# EAGLE library part SN74LVC3G04DCUR (library My Library-adm)
TRIPLE INVERTER GATE
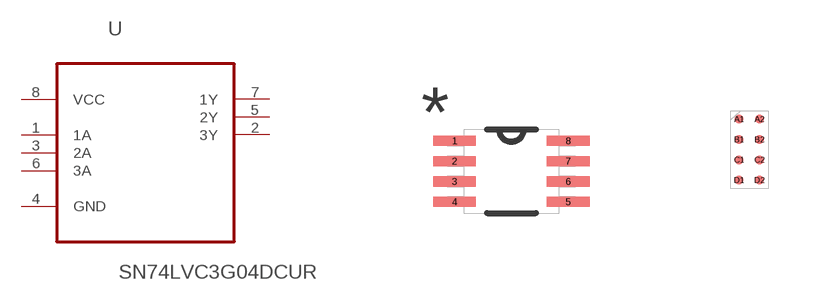
[diagram p35: symbol with the pads of SOP50P310X90-8N; footprints SOP50P310X90-8N, BGA8C50P2X4_190X90X50]

Designator prefix U

## SN74LVC3G04DCUR (MPN: SN74LVC3G04DCUR; OC_FARNELL: 1470889; OC_NEWARK: 76C4262; PACKAGE: VSSOP-8; SUPPLIER: Texas Instruments)  [SOP50P310X90-8N]
1  1A  in
2  3Y  out
3  2A  in
4  GND  pas
5  2Y  out
6  3A  in
7  1Y  out
8  VCC  pwr

## SN74LVC3G04DCURBGA  [BGA8C50P2X4_190X90X50]
A1  1A  in
A2  VCC  pwr
B1  3Y  out
B2  1Y  out
C1  2A  in
C2  3A  in
D1  GND  pas
D2  2Y  out

## Footprint SOP50P310X90-8N (pad centres in mm)
smd 1.067 x 0.254: 1 -1.422,0.762; 2 -1.422,0.254; 3 -1.422,-0.254; 4 -1.422,-0.762; 5 1.422,-0.762; 6 1.422,-0.254; 7 1.422,0.254; 8 1.422,0.762

## Footprint BGA8C50P2X4_190X90X50 (pad centres in mm)
smd 0.229 x 0.229: A1 -0.254,0.762; A2 0.254,0.762; B1 -0.254,0.254; B2 0.254,0.254; C1 -0.254,-0.254; C2 0.254,-0.254; D1 -0.254,-0.762; D2 0.254,-0.762